# Altium schematic symbol library NPN_ON_Style1.Schlib: 1 symbol
Pins are listed as number, name and electrical type; pins without a type are passive.

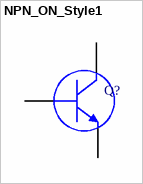
[diagram p0: symbol NPN_ON_Style1]

## NPN_ON_Style1
designator Q?
signal-integrity model Model Name (Model Description)
pins: 1 B, 2 C (power), 3 E, 4 C